# EAGLE library part 4017B (library 4017B)
4017B 5-stage Johnson counter DESCRIPTION The HEF4017B is a 5-stage Johnson decade counter with ten spike-free decoded active HIGH outputs (Oo to O9), an active LOW output from the most significant flip-flop (O5-9), active HIGH and active LOW clock inputs (CP0, CP1) and an overriding asynchronous master reset input (MR). The counter is advanced by either a LOW to HIGH transition at CP0 while CP1 is LOW or a HIGH to LOW transition at CP1 while CP0 is HIGH (see also function table). When cascading counters, the O5-9 output, which is LOW while the counter is in states 5, 6, 7, 8 and 9, can be used to drive the CP0 input of the next counter. A HIGH on MR resets the counter to zero (Oo = O5-9 = HIGH; O1 to O9 = LOW) independent of the clock inputs (CP0, CP1). Automatic code correction of the counter is provided by an internal circuit: following any illegal code the counter returns to a proper counting mode within 11 clock pulses. Schmitt-trigger action in the clock input makes the circuit highly tolerant to slower clock rise and fall times
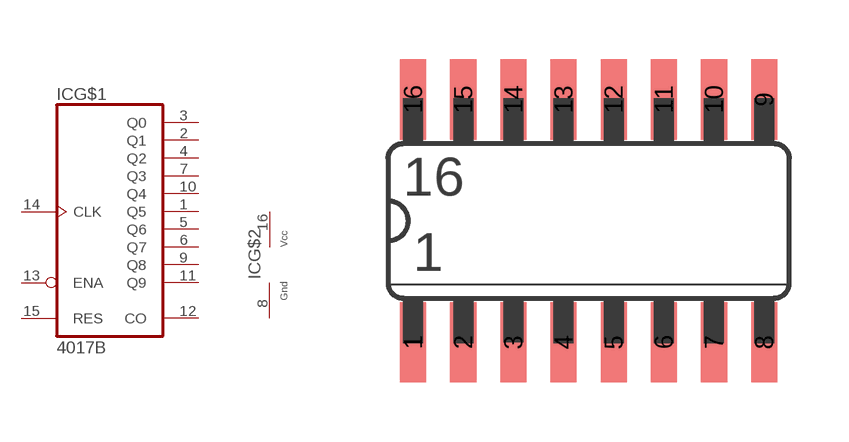
[diagram p0: symbol with the pads of SO16; footprint SO16]

Designator prefix IC; gates G$1=4017 G$2=PWR+/GND

## 4017BT (Check_prices: https://www.snapeda.com/parts/4017B/Heyco/view-part/?ref=eda; Description: EPDM Snap-In Liquid Tight Bushing, .906, PG16, Black | Heyco 4017B; MF: Heyco; MP: 4017B; Package: None; RS_Components_72139342_Purchase_URL: https://www.snapeda.com/api/url_track_click/https%253A//us.rs-online.com/product/heyco/4017b/72139342/%253Futm_source%253DSnapEDA%2526utm_medium%253Dpart_sourcing%2526utm_campaign%253Dpartsourcing_SnapEDA_IMP_EX_GR/?unipart_id=12618509&manufacturer=Heyco&part_name=4017B&search_term=4017; SnapEDA_Link: https://www.snapeda.com/parts/4017B/Heyco/view-part/?ref=snap)  [SO16]
1  G$1:Q5  out
2  G$1:Q1  out
3  G$1:Q0  out
4  G$1:Q2  out
5  G$1:Q6  out
6  G$1:Q7  out
7  G$1:Q3  out
8  G$2:GND  pwr
9  G$1:Q8  out
10  G$1:Q4  out
11  G$1:Q9  out
12  G$1:CO  out
13  G$1:ENA  in
14  G$1:CLK  in
15  G$1:RES  in
16  G$2:V+  pwr

## Footprint SO16 (pad centres in mm)
smd 0.66 x 2.032: 1 -4.445,-3.073; 2 -3.175,-3.073; 3 -1.905,-3.073; 4 -0.635,-3.073; 5 0.635,-3.073; 6 1.905,-3.073; 7 3.175,-3.073; 8 4.445,-3.073; 9 4.445,3.073; 10 3.175,3.073; 11 1.905,3.073; 12 0.635,3.073; 13 -0.635,3.073; 14 -1.905,3.073; 15 -3.175,3.073; 16 -4.445,3.073